# Altium footprint library FootprintThroughHole.PcbLib: 14 footprints
Each footprint in its own frame and in the unit in brackets; x right, y up, seen from the top. Pads: shape width x height; smd on the part's side, far side on the other; paste and mask are expansions set on the pad; w line width, h text height; cw(c..) or ccw(c..) is an arc to the next point about the centre after c.
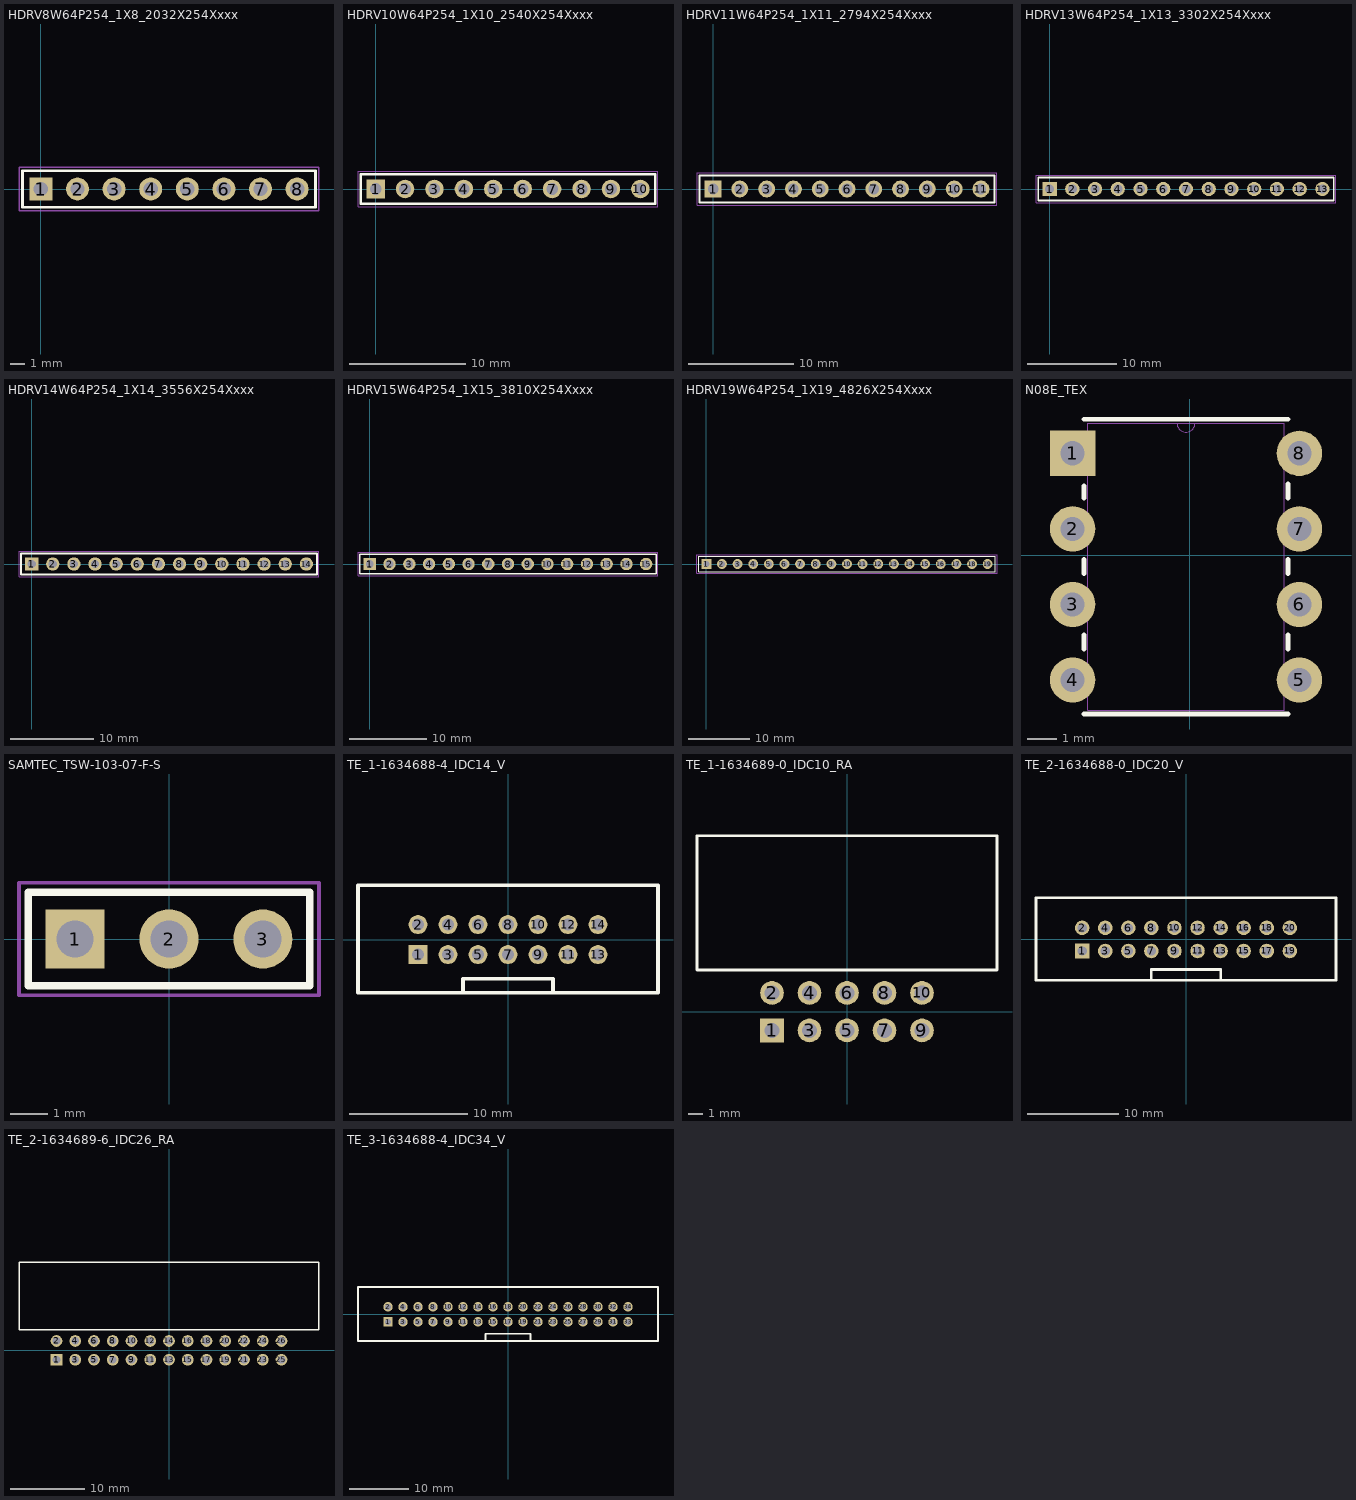
[diagram p0: the footprints below, top view; thin cyan lines are the x and y axes]

## HDRV8W64P254_1X8_2032X254Xxxx [mm]
pads (8):
  rect 1.6x1.6 hole 1: 1(0,0)
  round 1.6 hole 1: 2(2.54,0) 3(5.08,0) 4(7.62,0) 5(10.16,0) 6(12.7,0) 7(15.24,0) 8(17.78,0)
Top Overlay:
  lines w0.2: -1.27,-1.27 -1.27,1.27 19.05,1.27 19.05,-1.27 -1.27,-1.27
Mechanical 15:
  lines w0.1: -0.5,0 0.5,0 ; 0,-0.5 0,0.5 ; -1.52,-1.52 -1.52,1.52 19.3,1.52 19.3,-1.52 -1.52,-1.52
3D body "Harwin_M20-9990845.STEP": height 8.64, standoff -3, extent -1.27,-1.27 19.05,1.27

## HDRV10W64P254_1X10_2540X254Xxxx [mm]
pads (10):
  rect 1.6x1.6 hole 1: 1(0,0)
  round 1.6 hole 1: 2(2.54,0) 3(5.08,0) 4(7.62,0) 5(10.16,0) 6(12.7,0) 7(15.24,0) 8(17.78,0) 9(20.32,0) 10(22.86,0)
Top Overlay:
  lines w0.2: -1.27,-1.27 -1.27,1.27 24.13,1.27 24.13,-1.27 -1.27,-1.27
Mechanical 15:
  lines w0.1: -0.5,0 0.5,0 ; 0,-0.5 0,0.5 ; -1.52,-1.52 -1.52,1.52 24.38,1.52 24.38,-1.52 -1.52,-1.52
3D body "Harwin_M20-9991045.STEP": height 8.64, standoff -3, extent -1.27,-1.27 24.13,1.27

## HDRV11W64P254_1X11_2794X254Xxxx [mm]
pads (11):
  rect 1.6x1.6 hole 1: 1(0,0)
  round 1.6 hole 1: 2(2.54,0) 3(5.08,0) 4(7.62,0) 5(10.16,0) 6(12.7,0) 7(15.24,0) 8(17.78,0) 9(20.32,0) 10(22.86,0) 11(25.4,0)
Top Overlay:
  lines w0.2: -1.27,-1.27 -1.27,1.27 26.67,1.27 26.67,-1.27 -1.27,-1.27
Mechanical 15:
  lines w0.1: -0.5,0 0.5,0 ; 0,-0.5 0,0.5 ; -1.52,-1.52 -1.52,1.52 26.92,1.52 26.92,-1.52 -1.52,-1.52
3D body "Harwin_M20-9991145.STEP": height 8.64, standoff -3, extent -1.27,-1.27 26.67,1.27

## HDRV13W64P254_1X13_3302X254Xxxx [mm]
pads (13):
  rect 1.6x1.6 hole 1: 1(0,0)
  round 1.6 hole 1: 2(2.54,0) 3(5.08,0) 4(7.62,0) 5(10.16,0) 6(12.7,0) 7(15.24,0) 8(17.78,0) 9(20.32,0) 10(22.86,0) 11(25.4,0) 12(27.94,0) 13(30.48,0)
Top Overlay:
  lines w0.2: -1.27,-1.27 31.75,-1.27 31.75,1.27 -1.27,1.27 -1.27,-1.27
Mechanical 15:
  lines w0.1: -0.5,0 0.5,0 ; 0,-0.5 0,0.5 ; -1.52,-1.52 32,-1.52 32,1.52 -1.52,1.52 -1.52,-1.52
3D body "Harwin_M20-9991345.STEP": height 8.64, standoff -3, extent -1.27,-1.27 31.75,1.27

## HDRV14W64P254_1X14_3556X254Xxxx [mm]
pads (14):
  rect 1.6x1.6 hole 1: 1(0,0)
  round 1.6 hole 1: 2(2.54,0) 3(5.08,0) 4(7.62,0) 5(10.16,0) 6(12.7,0) 7(15.24,0) 8(17.78,0) 9(20.32,0) 10(22.86,0) 11(25.4,0) 12(27.94,0) 13(30.48,0) 14(33.02,0)
Top Overlay:
  lines w0.2: -1.27,-1.27 -1.27,1.27 34.29,1.27 34.29,-1.27 -1.27,-1.27
Mechanical 15:
  lines w0.1: -0.5,0 0.5,0 ; 0,-0.5 0,0.5 ; -1.52,-1.52 -1.52,1.52 34.54,1.52 34.54,-1.52 -1.52,-1.52
3D body "Harwin_M20-9991445.STEP": height 8.64, standoff -3, extent -1.27,-1.27 34.29,1.27

## HDRV15W64P254_1X15_3810X254Xxxx [mm]
pads (15):
  rect 1.6x1.6 hole 1: 1(0,0)
  round 1.6 hole 1: 2(2.54,0) 3(5.08,0) 4(7.62,0) 5(10.16,0) 6(12.7,0) 7(15.24,0) 8(17.78,0) 9(20.32,0) 10(22.86,0) 11(25.4,0) 12(27.94,0) 13(30.48,0) 14(33.02,0) 15(35.56,0)
Top Overlay:
  lines w0.2: -1.27,-1.27 36.83,-1.27 36.83,1.27 -1.27,1.27 -1.27,-1.27
Mechanical 15:
  lines w0.1: -0.5,0 0.5,0 ; 0,-0.5 0,0.5 ; -1.52,-1.52 37.08,-1.52 37.08,1.52 -1.52,1.52 -1.52,-1.52
3D body "Harwin_M20-9991545.STEP": height 8.64, standoff -3, extent -1.27,-1.27 36.83,1.27

## HDRV19W64P254_1X19_4826X254Xxxx [mm]
pads (19):
  rect 1.6x1.6 hole 1: 1(0,0)
  round 1.6 hole 1: 2(2.54,0) 3(5.08,0) 4(7.62,0) 5(10.16,0) 6(12.7,0) 7(15.24,0) 8(17.78,0) 9(20.32,0) 10(22.86,0) 11(25.4,0) 12(27.94,0) 13(30.48,0) 14(33.02,0) 15(35.56,0) 16(38.1,0) 17(40.64,0) 18(43.18,0) 19(45.72,0)
Top Overlay:
  lines w0.2: -1.27,-1.27 46.99,-1.27 46.99,1.27 -1.27,1.27 -1.27,-1.27
Mechanical 15:
  lines w0.1: -0.5,0 0.5,0 ; 0,-0.5 0,0.5 ; -1.52,-1.52 47.24,-1.52 47.24,1.52 -1.52,1.52 -1.52,-1.52
3D body "Harwin_M20-9991942.STEP": height 8.64, standoff -3, extent -1.27,-1.27 46.99,1.27

## N08E_TEX [mil]
pads (8):
  rect 60x60 hole 32 mask+0: 1(-155,135)
  round 60 hole 32 mask+0: 2(-155,35) 3(-155,-65) 4(-155,-165) 5(145,-165) 6(145,-65) 7(145,35) 8(145,135)
Top Overlay:
  lines w6: -140,-210 130,-210 ; -140,-124.59 -140,-105.41 ; -140,-24.59 -140,-5.41 ; -140,75.41 -140,91.9 ; -140,180 130,180 ; 130,-124.59 130,-105.41 ; 130,-24.59 130,-5.41 ; 130,75.41 130,94.59
Mechanical 13:
  lines w0: -17,175 ccw(c-5,175) 7,175
  lines w1: -171,-181 -171,-149 -135,-149 -135,-181 -171,-181 ; -171,-81 -171,-49 -135,-49 -135,-81 -171,-81 ; -171,19 -171,51 -135,51 -135,19 -171,19 ; -171,119 -171,151 -135,151 -135,119 -171,119 ; -135,-205 125,-205 125,175 -135,175 -135,-205 ; 125,-181 125,-149 161,-149 161,-181 125,-181 ; 125,-81 125,-49 161,-49 161,-81 125,-81 ; 125,19 125,51 161,51 161,19 125,19 ; 125,119 125,151 161,151 161,119 125,119
  text "*" at -137.5,110 h50
3D body: height 10, standoff 0, extent -155,135 -145,145
3D body "N08E_TEX.step": height 215.12, standoff -100, extent -165,-205 155,175

## SAMTEC_TSW-103-07-F-S [mm]
pads (3):
  rect 1.6x1.6 hole 1: 1(-2.54,0)
  round 1.6 hole 1: 2(0,0) 3(2.54,0)
Top Overlay:
  lines w0.2: -3.81,-1.27 -3.81,1.27 3.81,1.27 3.81,-1.27 -3.81,-1.27
Mechanical 15:
  lines w0.1: -3.04,0 -2.04,0 ; -2.54,-0.5 -2.54,0.5 ; -4.06,-1.52 -4.06,1.52 4.06,1.52 4.06,-1.52 -4.06,-1.52
3D body "SAMTEC_TSW-103-07-F-S.STEP": height 8.38, standoff -2.54, extent -3.81,-1.27 3.81,1.27

## TE_1-1634688-4_IDC14_V [mm]
pads (14):
  rect 1.6x1.6 hole 1.02: 1(-7.62,-1.27)
  round 1.6 hole 1.02: 2(-7.62,1.27) 3(-5.08,-1.27) 4(-5.08,1.27) 5(-2.54,-1.27) 6(-2.54,1.27) 7(0,-1.27) 8(0,1.27) 9(2.54,-1.27) 10(2.54,1.27)
  round 1.6 hole 1.02 paste+0 mask+0.076: 11(5.08,-1.27) 12(5.08,1.27) 13(7.62,-1.27) 14(7.62,1.27)
Top Overlay:
  lines w0.3: -3.81,-4.5 -3.81,-3.302 3.81,-3.302 3.81,-4.5 ; -12.7,-4.5 -12.7,4.6 12.7,4.6 12.7,-4.5 -12.7,-4.5
3D body "TE_1-1634688-4_IDC14_V.STEP": height 9.1, standoff -3.2, extent -12.715,-4.5 12.715,4.6

## TE_1-1634689-0_IDC10_RA [mm]
pads (10):
  rect 1.6x1.6 hole 1.02: 1(-5.08,-1.27)
  round 1.6 hole 1.02: 2(-5.08,1.27) 3(-2.54,-1.27) 4(-2.54,1.27) 5(0,-1.27) 6(0,1.27) 7(2.54,-1.27) 8(2.54,1.27) 9(5.08,-1.27) 10(5.08,1.27)
Top Overlay:
  lines w0.2: -10.16,2.81 10.16,2.81 10.16,11.92 -10.16,11.92 -10.16,2.82
3D body "TE_1-1634689-0_IDC10_RA.STEP": height 9.07, standoff -3.03, extent -10.175,-1.606 10.175,11.894

## TE_2-1634688-0_IDC20_V [mm]
pads (20):
  rect 1.6x1.6 hole 1.02: 1(-11.43,-1.27)
  round 1.6 hole 1.02: 2(-11.43,1.27) 3(-8.89,-1.27) 4(-8.89,1.27) 5(-6.35,-1.27) 6(-6.35,1.27) 7(-3.81,-1.27) 8(-3.81,1.27) 9(-1.27,-1.27) 10(-1.27,1.27)
  round 1.6 hole 1.02 paste+0 mask+0.076: 11(1.27,-1.27) 12(1.27,1.27) 13(3.81,-1.27) 14(3.81,1.27) 15(6.35,-1.27) 16(6.35,1.27) 17(8.89,-1.27) 18(8.89,1.27) 19(11.43,-1.27) 20(11.43,1.27)
Top Overlay:
  lines w0.3: -3.81,-4.5 -3.81,-3.302 3.81,-3.302 3.81,-4.5 ; -16.51,-4.5 -16.51,4.6 16.51,4.6 16.51,-4.5 -16.51,-4.5
3D body "TE_2-1634688-0_IDC20_V.STEP": height 9.1, standoff -3.2, extent -16.525,-4.5 16.525,4.6

## TE_2-1634689-6_IDC26_RA [mm]
pads (26):
  rect 1.6x1.6 hole 1.02: 1(-15.24,-1.27)
  round 1.6 hole 1.02: 2(-15.24,1.27) 3(-12.7,-1.27) 4(-12.7,1.27) 5(-10.16,-1.27) 6(-10.16,1.27) 7(-7.62,-1.27) 8(-7.62,1.27) 9(-5.08,-1.27) 10(-5.08,1.27)
  round 1.6 hole 1.02 paste+0 mask+0.076: 11(-2.54,-1.27) 12(-2.54,1.27) 13(0,-1.27) 14(0,1.27) 15(2.54,-1.27) 16(2.54,1.27) 17(5.08,-1.27) 18(5.08,1.27) 19(7.62,-1.27) 20(7.62,1.27)
  round 1.6 hole 1.02 mask+0.102: 21(10.16,-1.27) 22(10.16,1.27) 23(12.7,-1.27) 24(12.7,1.27) 25(15.24,-1.27) 26(15.24,1.27)
Top Overlay:
  lines w0.2: -20.32,2.81 20.32,2.81 20.32,11.92 -20.32,11.92 -20.32,2.82
3D body "TE_2-1634689-6_IDC26_RA.STEP": height 9.07, standoff -3.03, extent -20.335,-1.562 20.335,11.938

## TE_3-1634688-4_IDC34_V [mm]
pads (34):
  rect 1.6x1.6 hole 1.02: 1(-20.32,-1.27)
  round 1.6 hole 1.02: 2(-20.32,1.27) 3(-17.78,-1.27) 4(-17.78,1.27) 5(-15.24,-1.27) 6(-15.24,1.27) 7(-12.7,-1.27) 8(-12.7,1.27) 9(-10.16,-1.27) 10(-10.16,1.27)
  round 1.6 hole 1.02 paste+0 mask+0.076: 11(-7.62,-1.27) 12(-7.62,1.27) 13(-5.08,-1.27) 14(-5.08,1.27) 15(-2.54,-1.27) 16(-2.54,1.27) 17(0,-1.27) 18(0,1.27) 19(2.54,-1.27) 20(2.54,1.27)
  round 1.6 hole 1.02 mask+0.102: 21(5.08,-1.27) 22(5.08,1.27) 23(7.62,-1.27) 24(7.62,1.27) 25(10.16,-1.27) 26(10.16,1.27) 27(12.7,-1.27) 28(12.7,1.27) 29(15.24,-1.27) 30(15.24,1.27) 31(17.78,-1.27) 32(17.78,1.27) 33(20.32,-1.27) 34(20.32,1.27)
Top Overlay:
  lines w0.3: -3.81,-4.5 -3.81,-3.302 3.81,-3.302 3.81,-4.5 ; -25.4,-4.5 -25.4,4.6 25.4,4.6 25.4,-4.5 -25.4,-4.5
3D body "TE_3-1634688-4_IDC34_V.STEP": height 9.1, standoff -3.2, extent -25.4,-4.528 25.43,4.572